# Altium footprint library Vishay Vitramon Ceramic Dipped Capacitor.PcbLib: 18 footprints (part 1 of 2)
Each footprint in its own frame and in the unit in brackets; x right, y up, seen from the top. Pads: shape width x height; smd on the part's side, far side on the other; paste and mask are expansions set on the pad; w line width, h text height; cw(c..) or ccw(c..) is an arc to the next point about the centre after c.
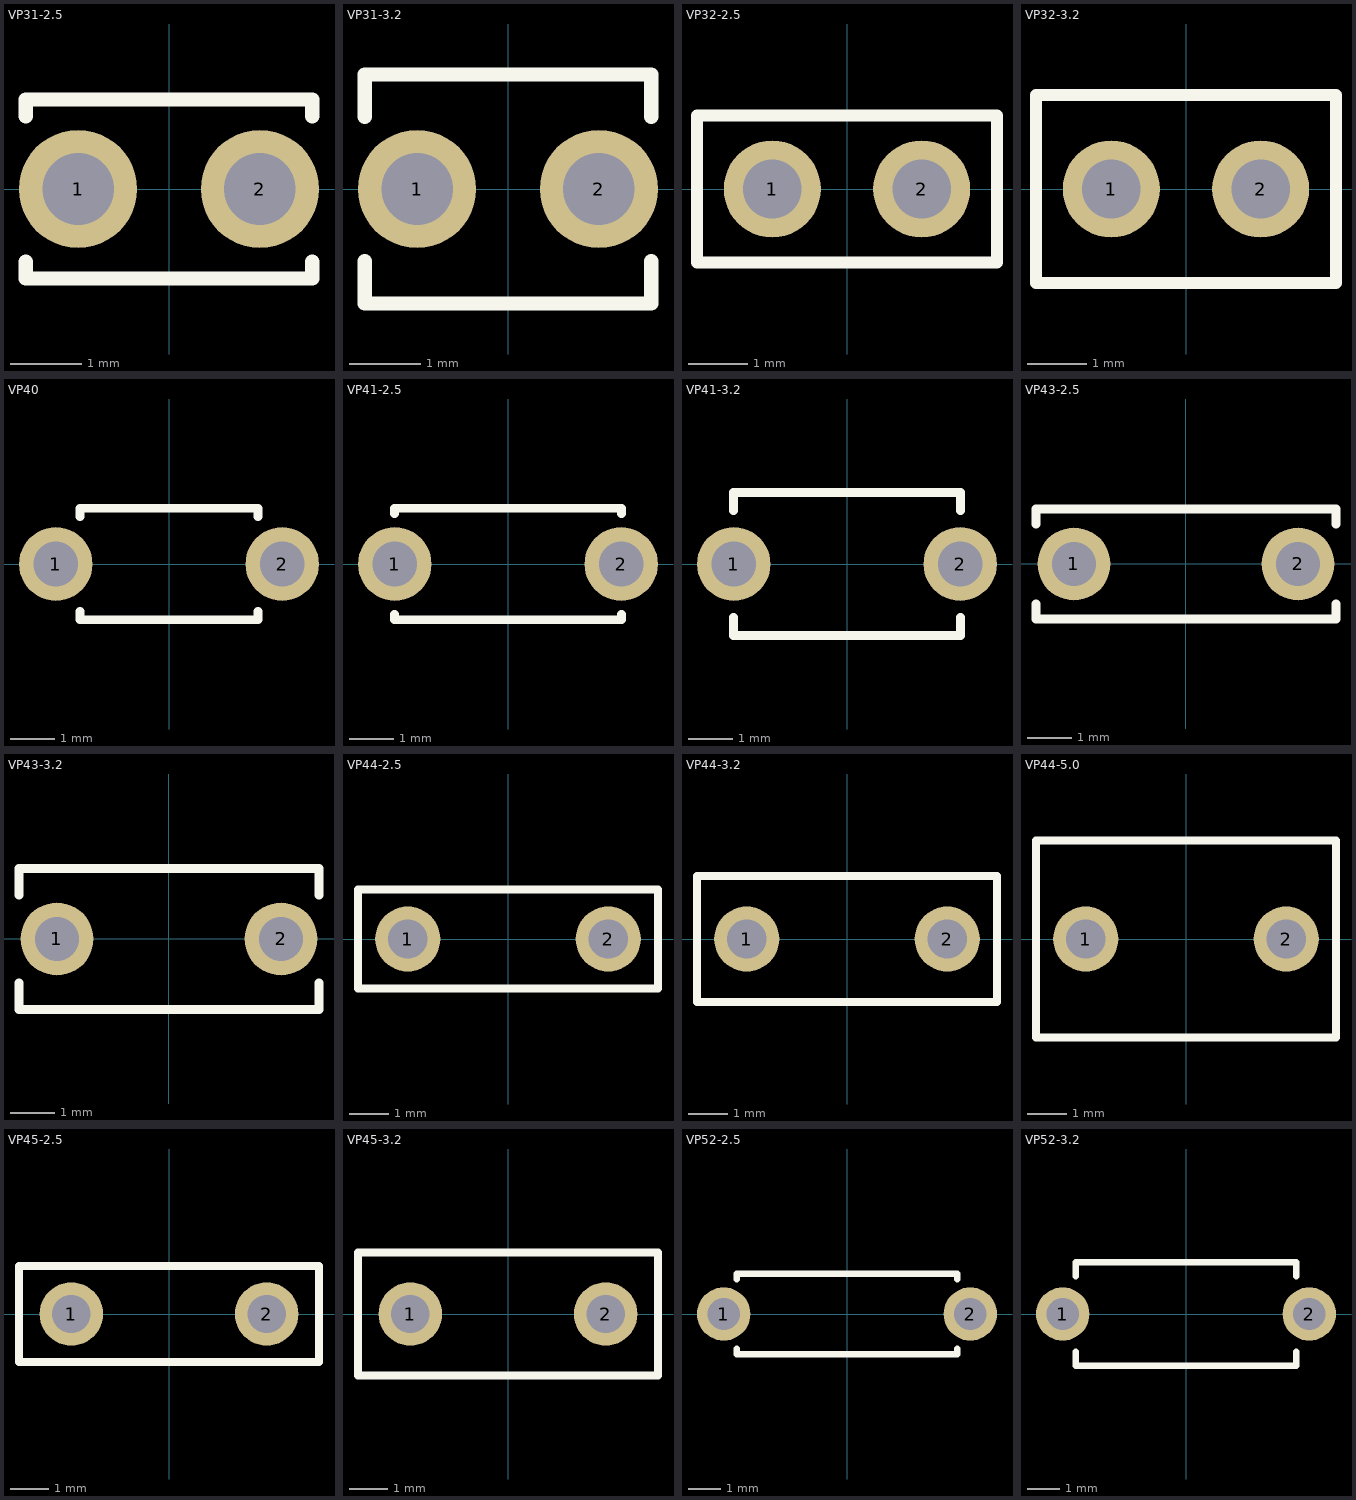
[diagram p0: the footprints below, top view; thin cyan lines are the x and y axes]

## VP31-2.5 [mm] "Capacitor, Ceramic, Thru-Hole, Dipped Radial; Body 4 x 2.5 mm (WxT) Pin Spacing 2.54 mm (typ)"
height 4.6
pads (2):
  round 1.65 hole 1: 1(-1.27,0) 2(1.27,0)
Top Overlay:
  lines w0.2: -2,-1.015 -2,-1.25 2,-1.25 2,-1.015 ; -2,1.015 -2,1.25 2,1.25 2,1.015

## VP31-3.2 [mm] "Capacitor, Ceramic, Thru-Hole, Dipped Radial; Body 4 x 3.2 mm (WxT) Pin Spacing 2.54 mm (typ)"
height 4.6
pads (2):
  round 1.65 hole 1: 1(-1.27,0) 2(1.27,0)
Top Overlay:
  lines w0.2: -2,-1.01 -2,-1.6 2,-1.6 2,-1.01 ; -2,1.01 -2,1.6 2,1.6 2,1.01

## VP32-2.5 [mm] "Capacitor, Ceramic, Thru-Hole, Dipped Radial; Body 5.1 x 2.5 mm (WxT) Pin Spacing 2.54 mm (typ)"
height 6
pads (2):
  round 1.65 hole 1: 1(-1.27,0) 2(1.27,0)
Top Overlay:
  lines w0.2: -2.55,-1.25 -2.55,1.25 2.55,1.25 2.55,-1.25 -2.55,-1.25

## VP32-3.2 [mm] "Capacitor, Ceramic, Thru-Hole, Dipped Radial; Body 5.1 x 3.2 mm (WxT) Pin Spacing 2.54 mm (typ)"
height 6
pads (2):
  round 1.65 hole 1: 1(-1.27,0) 2(1.27,0)
Top Overlay:
  lines w0.2: -2.55,-1.6 -2.55,1.6 2.55,1.6 2.55,-1.6 -2.55,-1.6

## VP40 [mm] "Capacitor, Ceramic, Thru-Hole, Dipped Radial; Body 4 x 2.5 mm (WxT) Pin Spacing 5.08 mm (typ)"
height 4.6
pads (2):
  round 1.65 hole 1: 1(-2.54,0) 2(2.54,0)
Top Overlay:
  lines w0.2: -2,-1.07 -2,-1.25 2,-1.25 2,-1.07 ; -2,1.07 -2,1.25 2,1.25 2,1.07

## VP41-2.5 [mm] "Capacitor, Ceramic, Thru-Hole, Dipped Radial; Body 5.1 x 2.5 mm (WxT) Pin Spacing 5.08 mm (typ)"
height 6
pads (2):
  round 1.65 hole 1: 1(-2.54,0) 2(2.54,0)
Top Overlay:
  lines w0.2: -2.55,-1.13 -2.55,-1.25 2.55,-1.25 2.55,-1.13 ; -2.55,1.13 -2.55,1.25 2.55,1.25 2.55,1.13

## VP41-3.2 [mm] "Capacitor, Ceramic, Thru-Hole, Dipped Radial; Body 5.1 x 3.2 mm (WxT) Pin Spacing 5.08 mm (typ)"
height 6
pads (2):
  round 1.65 hole 1: 1(-2.54,0) 2(2.54,0)
Top Overlay:
  lines w0.2: -2.55,-1.2 -2.55,-1.6 2.55,-1.6 2.55,-1.2 ; -2.55,1.2 -2.55,1.6 2.55,1.6 2.55,1.2

## VP43-2.5 [mm] "Capacitor, Ceramic, Thru-Hole, Dipped Radial; Body 6.8 x 2.5 mm (WxT) Pin Spacing 5.08 mm (typ)"
height 7
pads (2):
  round 1.65 hole 1: 1(-2.54,0) 2(2.54,0)
Top Overlay:
  lines w0.2: -3.4,-0.91 -3.4,-1.25 3.4,-1.25 3.4,-0.91 ; -3.4,0.91 -3.4,1.25 3.4,1.25 3.4,0.91

## VP43-3.2 [mm] "Capacitor, Ceramic, Thru-Hole, Dipped Radial; Body 6.8 x 3.2 mm (WxT) Pin Spacing 5.08 mm (typ)"
height 7
pads (2):
  round 1.65 hole 1: 1(-2.54,0) 2(2.54,0)
Top Overlay:
  lines w0.2: -3.4,-1 -3.4,-1.6 3.4,-1.6 3.4,-1 ; -3.4,1 -3.4,1.6 3.4,1.6 3.4,1

## VP44-2.5 [mm] "Capacitor, Ceramic, Thru-Hole, Dipped Radial; Body 7.6 x 2.5 mm (WxT) Pin Spacing 5.08 mm (typ)"
height 9
pads (2):
  round 1.65 hole 1: 1(-2.54,0) 2(2.54,0)
Top Overlay:
  lines w0.2: -3.8,-1.25 3.8,-1.25 3.8,1.25 -3.8,1.25 -3.8,-1.25

## VP44-3.2 [mm] "Capacitor, Ceramic, Thru-Hole, Dipped Radial; Body 7.6 x 3.2 mm (WxT) Pin Spacing 5.08 mm (typ)"
height 9
pads (2):
  round 1.65 hole 1: 1(-2.54,0) 2(2.54,0)
Top Overlay:
  lines w0.2: -3.8,-1.6 3.8,-1.6 3.8,1.6 -3.8,1.6 -3.8,-1.6

## VP44-5.0 [mm] "Capacitor, Ceramic, Thru-Hole, Dipped Radial; Body 7.6 x 5 mm (WxT) Pin Spacing 5.08 mm (typ)"
height 9
pads (2):
  round 1.65 hole 1: 1(-2.54,0) 2(2.54,0)
Top Overlay:
  lines w0.2: -3.8,-2.5 -3.8,2.5 3.8,2.5 3.8,-2.5 -3.8,-2.5

## VP45-2.5 [mm] "Capacitor, Ceramic, Thru-Hole, Dipped Radial; Body 7.8 x 2.5 mm (WxT) Pin Spacing 5.08 mm (typ)"
height 10
pads (2):
  round 1.65 hole 1: 1(-2.54,0) 2(2.54,0)
Top Overlay:
  lines w0.2: -3.9,-1.25 -3.9,1.25 3.9,1.25 3.9,-1.25 -3.9,-1.25

## VP45-3.2 [mm] "Capacitor, Ceramic, Thru-Hole, Dipped Radial; Body 7.8 x 3.2 mm (WxT) Pin Spacing 5.08 mm (typ)"
height 10
pads (2):
  round 1.65 hole 1: 1(-2.54,0) 2(2.54,0)
Top Overlay:
  lines w0.2: -3.9,-1.6 -3.9,1.6 3.9,1.6 3.9,-1.6 -3.9,-1.6

## VP52-2.5 [mm] "Capacitor, Ceramic, Thru-Hole, Dipped Radial; Body 6.8 x 2.5 mm (WxT) Pin Spacing 7.62 mm (typ)"
height 6
pads (2):
  round 1.65 hole 1: 1(-3.81,0) 2(3.81,0)
Top Overlay:
  lines w0.2: -3.4,-1.08 -3.4,-1.25 3.4,-1.25 3.4,-1.08 ; -3.4,1.08 -3.4,1.25 3.4,1.25 3.4,1.08

## VP52-3.2 [mm] "Capacitor, Ceramic, Thru-Hole, Dipped Radial; Body 6.8 x 3.2 mm (WxT) Pin Spacing 7.62 mm (typ)"
height 6
pads (2):
  round 1.65 hole 1: 1(-3.81,0) 2(3.81,0)
Top Overlay:
  lines w0.2: -3.4,-1.17 -3.4,-1.6 3.4,-1.6 3.4,-1.17 ; -3.4,1.17 -3.4,1.6 3.4,1.6 3.4,1.17